# Altium footprint library Miscellaneous Devices LC.PcbLib: 559 footprints (part 25 of 35)
Each footprint in its own frame and in the unit in brackets; x right, y up, seen from the top. Pads: shape width x height; smd on the part's side, far side on the other; paste and mask are expansions set on the pad; w line width, h text height; cw(c..) or ccw(c..) is an arc to the next point about the centre after c.
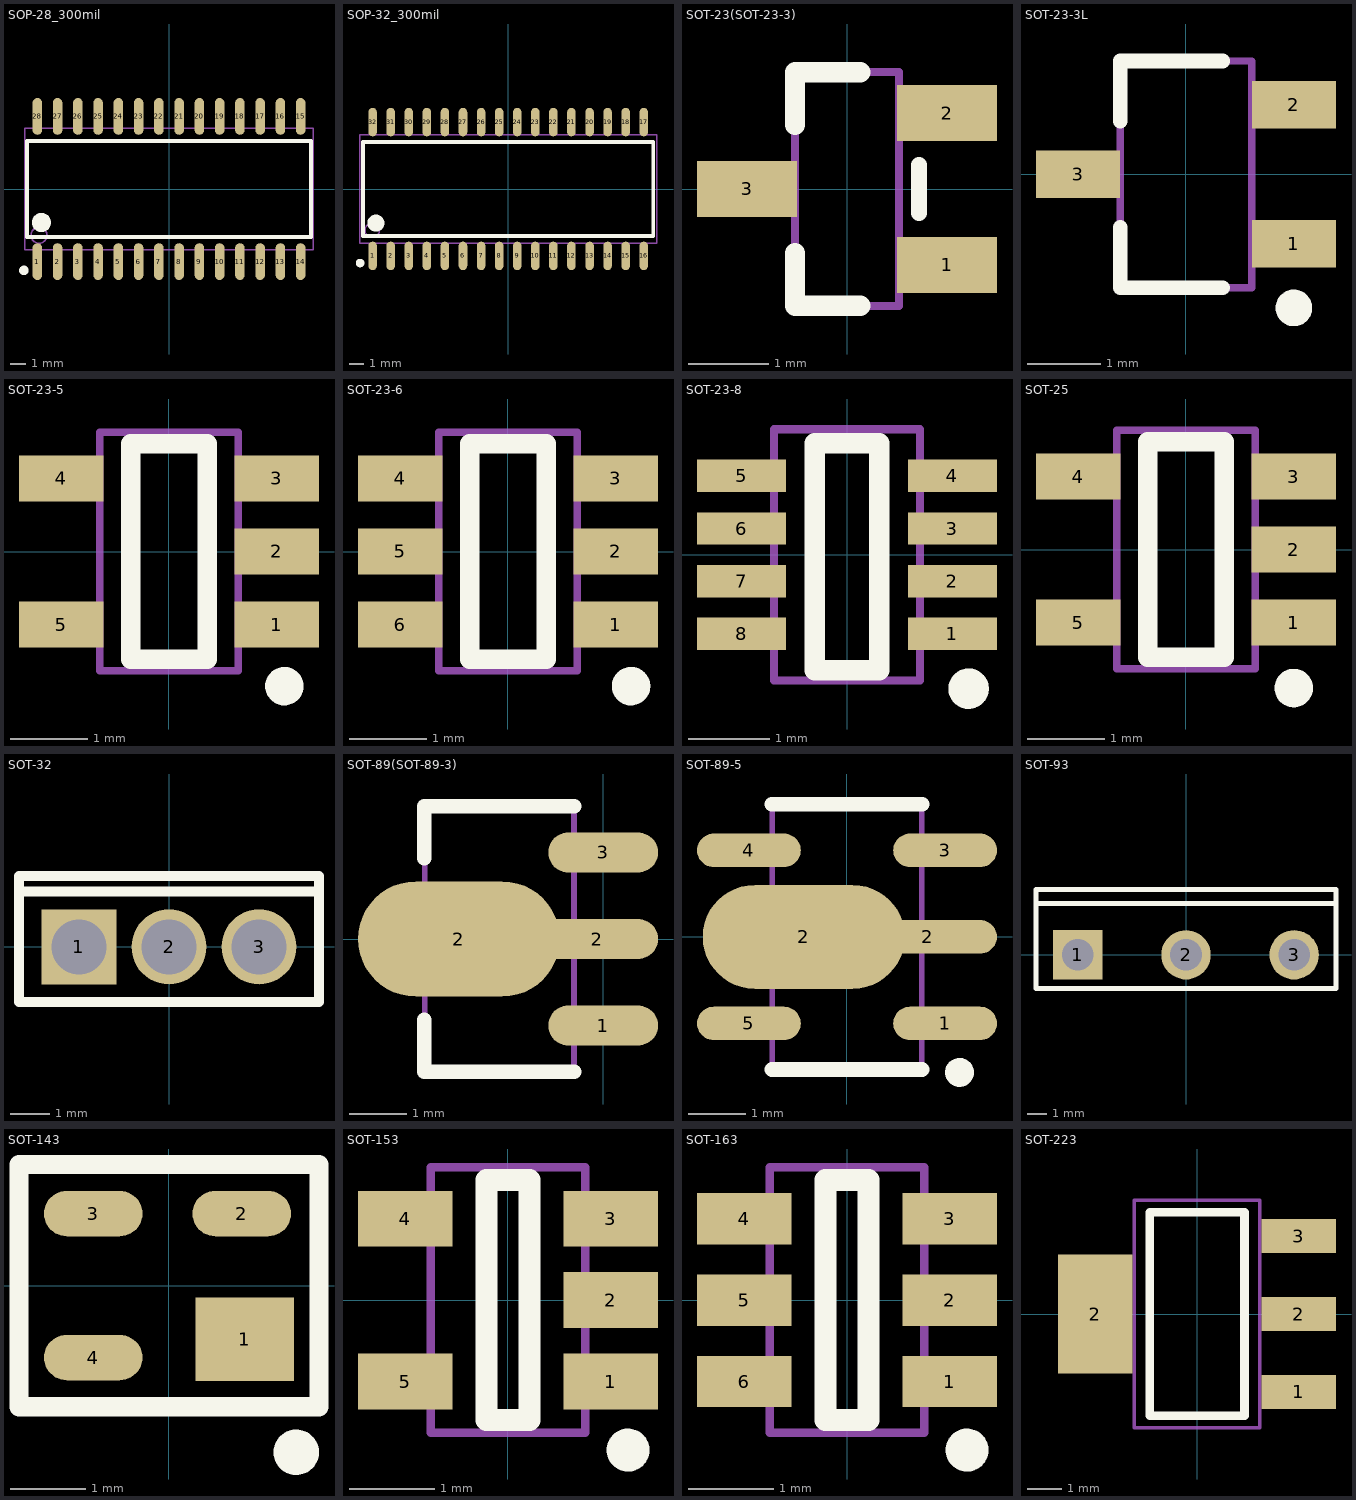
[diagram p24: the footprints below, top view; thin cyan lines are the x and y axes]

## SOP-28_300mil [mm]
pads (28):
  oval 0.6x2.3 smd: 1(-8.255,-4.55) 2(-6.985,-4.55) 3(-5.715,-4.55) 4(-4.445,-4.55) 5(-3.175,-4.55) 6(-1.905,-4.55) 7(-0.635,-4.55) 8(0.635,-4.55) 9(1.905,-4.55) 10(3.175,-4.55) 11(4.445,-4.55) 12(5.715,-4.55) 13(6.985,-4.55) 14(8.255,-4.55) 15(8.255,4.55) 16(6.985,4.55) 17(5.715,4.55) 18(4.445,4.55) 19(3.175,4.55) 20(1.905,4.55) 21(0.635,4.55) 22(-0.635,4.55) 23(-1.905,4.55) 24(-3.175,4.55) 25(-4.445,4.55) 26(-5.715,4.55) 27(-6.985,4.55) 28(-8.255,4.55)
Top Overlay:
  circle w0.3: c-9.1,-5.1 r0.15
  circle w0.6: c-8,-2.1 r0.3
  lines w0.254: -8.9,-3 -8.9,3 8.9,3 8.9,-3 -8.9,-3
Mechanical 13:
  circle w0.1: c-8.15,-2.9 r0.5
  lines w0.1: -9.05,-3.8 -9.05,3.8 9.05,3.8 9.05,-3.8 -9.05,-3.8

## SOP-32_300mil [mm]
pads (32):
  oval 0.6x2 smd: 1(-9.525,-4.7) 2(-8.255,-4.7) 3(-6.985,-4.7) 4(-5.715,-4.7) 5(-4.445,-4.7) 6(-3.175,-4.7) 7(-1.905,-4.7) 8(-0.635,-4.7) 9(0.635,-4.7) 10(1.905,-4.7) 11(3.175,-4.7) 12(4.445,-4.7) 13(5.715,-4.7) 14(6.985,-4.7) 15(8.255,-4.7) 16(9.525,-4.7) 17(9.525,4.7) 18(8.255,4.7) 19(6.985,4.7) 20(5.715,4.7) 21(4.445,4.7) 22(3.175,4.7) 23(1.905,4.7) 24(0.635,4.7) 25(-0.635,4.7) 26(-1.905,4.7) 27(-3.175,4.7) 28(-4.445,4.7) 29(-5.715,4.7) 30(-6.985,4.7) 31(-8.255,4.7) 32(-9.525,4.7)
Top Overlay:
  circle w0.6: c-9.3,-2.4 r0.3
  circle w0.3: c-10.4,-5.2 r0.15
  lines w0.254: -10.2,-3.3 -10.2,3.3 10.2,3.3 10.2,-3.3 -10.2,-3.3
Mechanical 13:
  circle w0.1: c-9.54,-2.9 r0.5
  lines w0.1: -10.44,-3.8 -10.44,3.8 10.44,3.8 10.44,-3.8 -10.44,-3.8

## SOT-23(SOT-23-3) [mm]
pads (3):
  rect 1.25x0.7 smd: 1(1.25,-0.95) 2(1.25,0.95) 3(-1.25,0)
Top Overlay:
  lines w0.2: 0.9,-0.3 0.9,0.3
  lines w0.254: -0.65,-0.8 -0.65,-1.46 0.165,-1.46 ; 0.165,1.46 -0.65,1.46 ; -0.65,0.8 -0.65,1.46 ; -0.65,0.8 -0.65,1.46 ; -0.65,0.8 -0.65,1.46
Mechanical 13:
  lines w0.1: -0.65,-1.46 -0.65,1.46 ; -0.65,-1.46 0.65,-1.46 ; -0.65,-1.46 -0.65,1.46 ; -0.65,-1.46 0.65,-1.46 ; -0.65,-1.46 0.65,-1.46 ; -0.65,-1.46 -0.65,1.46 ; -0.65,1.46 0.65,1.46 ; -0.65,1.46 0.65,1.46 ; -0.65,1.46 0.65,1.46 ; 0.65,-1.46 0.65,1.46 ; 0.65,-1.46 0.65,1.46 ; 0.65,-1.46 0.65,1.46
3D body "SOT-23.step": height 1.3, standoff 0, extent -1.5,-1.5 1.5,1.5

## SOT-23-3L [mm] "http://www.aosmd.com/res/packaging_information/SOT-23-3L.pdf"
height 1.25
pads (3):
  rect 1.15x0.65 smd: 1(1.475,-0.95) 2(1.475,0.95) 3(-1.475,0)
Top Overlay:
  circle w0.25: c1.475,-1.825 r0.125
  lines w0.2: -0.9,-0.725 -0.9,-1.55 0.5,-1.55 ; -0.9,0.725 -0.9,1.55 0.5,1.55
Mechanical 13:
  lines w0.1: -0.9,-1.55 0.9,-1.55 0.9,1.55 -0.9,1.55 -0.9,-1.55
3D body: height 1.25, standoff 0, extent -0.9,-1.55 0.9,1.55

## SOT-23-5 [mm]
pads (5):
  rect 1.1x0.6 smd: 1(1.4,-0.95) 2(1.4,0) 3(1.4,0.95) 4(-1.4,0.95) 5(-1.4,-0.95)
Top Overlay:
  circle w0.25: c1.5,-1.75 r0.125
  lines w0.254: -0.5,-1.4 0.5,-1.4 0.5,1.4 -0.5,1.4 -0.5,-1.4
Mechanical 13:
  lines w0.1: -0.9,-1.55 -0.9,1.55 0.9,1.55 0.9,-1.55 -0.9,-1.55

## SOT-23-6 [mm]
pads (6):
  rect 1.1x0.6 smd: 1(1.4,-0.95) 2(1.4,0) 3(1.4,0.95) 4(-1.4,0.95) 5(-1.4,0) 6(-1.4,-0.95)
Top Overlay:
  circle w0.25: c1.6,-1.75 r0.125
  lines w0.254: -0.5,-1.4 -0.5,1.4 0.5,1.4 0.5,-1.4 -0.5,-1.4
Mechanical 13:
  lines w0.1: -0.9,-1.55 -0.9,1.55 0.9,1.55 0.9,-1.55 -0.9,-1.55

## SOT-23-8 [mm]
pads (8):
  rect 1.1x0.4 smd mask+0.051: 1(1.3,-0.975) 2(1.3,-0.325) 3(1.3,0.325) 4(1.3,0.975) 5(-1.3,0.975) 6(-1.3,0.325) 7(-1.3,-0.325) 8(-1.3,-0.975)
Top Overlay:
  circle w0.25: c1.5,-1.65 r0.125
  lines w0.254: -0.4,-1.425 0.4,-1.425 0.4,1.375 -0.4,1.375 -0.4,-1.425
Mechanical 13:
  lines w0.1: -0.9,-1.55 -0.9,1.55 0.9,1.55 0.9,-1.55 -0.9,-1.55

## SOT-25 [mm]
pads (5):
  rect 1.1x0.6 smd: 1(1.4,-0.95) 2(1.4,0) 3(1.4,0.95) 4(-1.4,0.95) 5(-1.4,-0.95)
Top Overlay:
  circle w0.25: c1.4,-1.8 r0.125
  lines w0.254: -0.5,-1.4 0.5,-1.4 0.5,1.4 -0.5,1.4 -0.5,-1.4
Mechanical 13:
  lines w0.1: -0.9,-1.55 -0.9,1.55 0.9,1.55 0.9,-1.55 -0.9,-1.55

## SOT-32 [mm]
pads (3):
  rect 1.9x1.9 hole 1.4: 1(-2.28,0)
  round 1.9 hole 1.4: 2(0,0) 3(2.28,0)
Top Overlay:
  lines w0.254: -3.8,1.4 3.8,1.4 ; -3.8,-1.4 3.8,-1.4 3.8,1.8 -3.8,1.8 -3.8,-1.4
3D body "User Library-TO-126 (SOT32) PCB.STEP": height 13.19, standoff -3.54, extent -3.8,-1 3.8,1.55

## SOT-89(SOT-89-3) [mm]
pads (4):
  oval 1.9x0.7 smd: 1(0,-1.5) 3(0,1.5)
  oval 3.5x2 smd: 2(-2.5,0)
  oval 2.1x0.7 smd: 2(-0.1,0)
Top Overlay:
  lines w0.254: -3.1,-1.4 -3.1,-2.3 -0.5,-2.3 ; -3.1,1.4 -3.1,2.3 -0.5,2.3
Mechanical 13:
  lines w0.1: -3.095,-2.3 -3.095,2.3 -0.505,2.3 -0.505,-2.3 -3.095,-2.3
3D body "SOT-89-3.STEP": height 1.51, standoff 0, extent -3.75,-2.25 0.55,2.25

## SOT-89-5 [mm]
pads (6):
  oval 1.8x0.58 smd: 1(1.7,-1.5) 3(1.7,1.5) 4(-1.7,1.5) 5(-1.7,-1.5)
  oval 3.5x1.8 smd: 2(-0.75,0)
  oval 2.4x0.58 smd: 2(1.4,0)
Top Overlay:
  circle w0.25: c1.95,-2.35 r0.125
  lines w0.254: -1.3,-2.3 1.3,-2.3 ; -1.3,2.3 1.3,2.3
Mechanical 13:
  lines w0.1: -1.295,-2.3 1.295,-2.3 1.295,2.3 -1.295,2.3 -1.295,-2.3
3D body "SOT-89-5.STEP": height 1.5, standoff 0, extent -2.175,-2.25 2.175,2.25

## SOT-93 [mm]
pads (3):
  rect 2.5x2.5 hole 1.6: 1(-5.48,0)
  round 2.5 hole 1.6: 2(0,0) 3(5.48,0)
Top Overlay:
  lines w0.254: -7.6,2.6 7.6,2.6 ; -7.6,-1.7 -7.6,3.3 7.6,3.3 7.6,-1.7 -7.6,-1.7

## SOT-143 [mm]
pads (4):
  rect 1.3x1.1 smd: 1(1,-0.71)
  oval 1.3x0.6 smd: 2(0.96,0.95) 3(-1,0.95) 4(-1,-0.95)
Top Overlay:
  circle w0.3: c1.68,-2.2 r0.15
  lines w0.254: -1.98,-1.6 -1.98,1.6 1.98,1.6 1.98,-1.6 -1.98,-1.6
3D body "User Library-SOT-143.STEP": height 1, standoff 0, extent -1.23,-1.46 1.19,1.46

## SOT-153 [mm]
pads (5):
  rect 1.1x0.65 smd mask+0.051: 1(1.2,-0.95) 2(1.2,0) 3(1.2,0.95) 4(-1.2,0.95) 5(-1.2,-0.95)
Top Overlay:
  circle w0.25: c1.4,-1.75 r0.125
  lines w0.254: -0.25,-1.4 -0.25,1.4 0.25,1.4 0.25,-1.4 -0.25,-1.4
Mechanical 13:
  lines w0.1: -0.9,-1.55 0.9,-1.55 0.9,1.55 -0.9,1.55 -0.9,-1.55

## SOT-163 [mm]
pads (6):
  rect 1.1x0.6 smd: 1(1.2,-0.95) 2(1.2,0) 3(1.2,0.95) 4(-1.2,0.95) 5(-1.2,0) 6(-1.2,-0.95)
Top Overlay:
  circle w0.25: c1.4,-1.75 r0.125
  lines w0.254: -0.25,-1.4 0.25,-1.4 0.25,1.4 -0.25,1.4 -0.25,-1.4
Mechanical 13:
  lines w0.1: -0.9,-1.55 -0.9,1.55 0.9,1.55 0.9,-1.55 -0.9,-1.55

## SOT-223 [mm]
pads (4):
  rect 2.2x1 smd: 1(3,-2.3) 2(3,0) 3(3,2.3)
  rect 2.2x3.5 smd: 2(-3,0)
Top Overlay:
  lines w0.254: -1.4,-3 -1.4,3 1.4,3 1.4,-3 -1.4,-3
Mechanical 13:
  lines w0.1: -1.85,-3.35 1.85,-3.35 1.85,3.35 -1.85,3.35 -1.85,-3.35
3D body "TO-223.STEP": height 1.64, standoff -0.04, extent -3.49,-3.242 3.49,3.243